# Altium footprint library plataformas.PcbLib: 1 footprints
Each footprint in its own frame and in the unit in brackets; x right, y up, seen from the top. Pads: shape width x height; smd on the part's side, far side on the other; paste and mask are expansions set on the pad; w line width, h text height; cw(c..) or ccw(c..) is an arc to the next point about the centre after c.
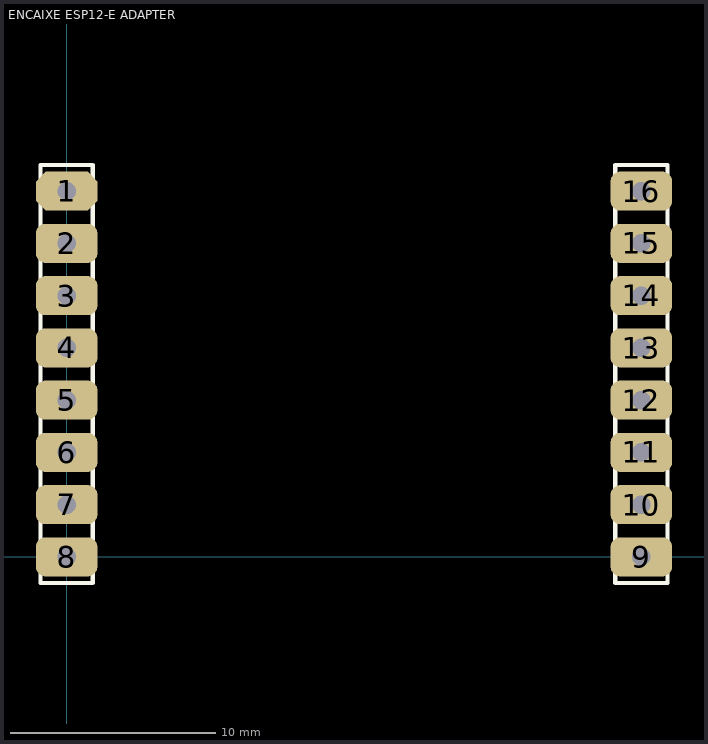
[diagram p0: the footprint, top view; thin cyan lines are the x and y axes]

## ENCAIXE ESP12-E ADAPTER [mm] "Barras fêmeas para encaixe do adaptador ESP-12"
pads (16):
  oct 3x1.9 hole 0.9: 1(0,17.78)
  rrect50% 3x1.9 hole 0.9: 2(0,15.24) 3(0,12.7) 4(0,10.16) 5(0,7.62) 6(0,5.08) 7(0,2.54) 8(0,0) 9(27.94,0) 10(27.94,2.54) 11(27.94,5.08) 12(27.94,7.62) 13(27.94,10.16) 14(27.94,12.7) 15(27.94,15.24) 16(27.94,17.78)
Top Overlay:
  lines w0.2: -1.27,-1.27 1.27,-1.27 1.27,19.05 -1.27,19.05 -1.27,-1.27 ; 26.67,-1.27 29.21,-1.27 29.21,19.05 26.67,19.05 26.67,-1.27
3D body "Header F 1x8 Vertical.step": height 8.5, standoff -3.2, extent 26.67,-1.52 29.21,19.3
3D body "Header F 1x8 Vertical.step": height 8.5, standoff -3.2, extent -1.27,-1.52 1.27,19.3
3D body "esp12-adapter.step": height 12.78, standoff 0.01, extent -2.54,-2.54 30.48,27.94